# Altium footprint library DGH105Q5R5.PcbLib: 1 footprints
Each footprint in its own frame and in the unit in brackets; x right, y up, seen from the top. Pads: shape width x height; smd on the part's side, far side on the other; paste and mask are expansions set on the pad; w line width, h text height; cw(c..) or ccw(c..) is an arc to the next point about the centre after c.
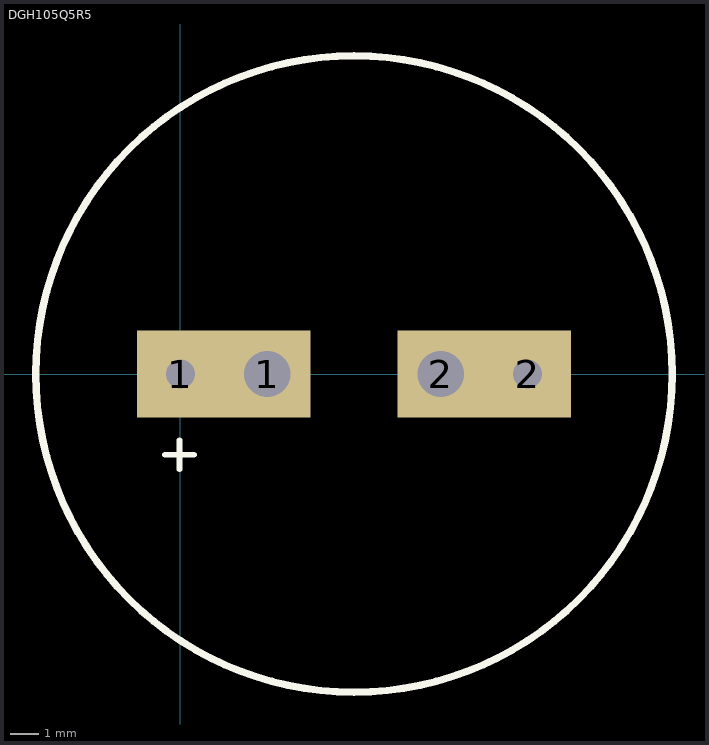
[diagram p0: the footprint, top view; thin cyan lines are the x and y axes]

## DGH105Q5R5 [mm]
pads (4):
  rect 3x3 hole 1: 1(0,0) 2(12,0)
  rect 3x3 hole 1.6: 1(3,0) 2(9,0)
Top Overlay:
  circle w0.25: c6,0 r11
  lines w0.2: -0.532,-2.794 0.468,-2.794 ; -0.032,-3.294 -0.032,-2.294